# EAGLE library part SOLDERPAD (library logik2)
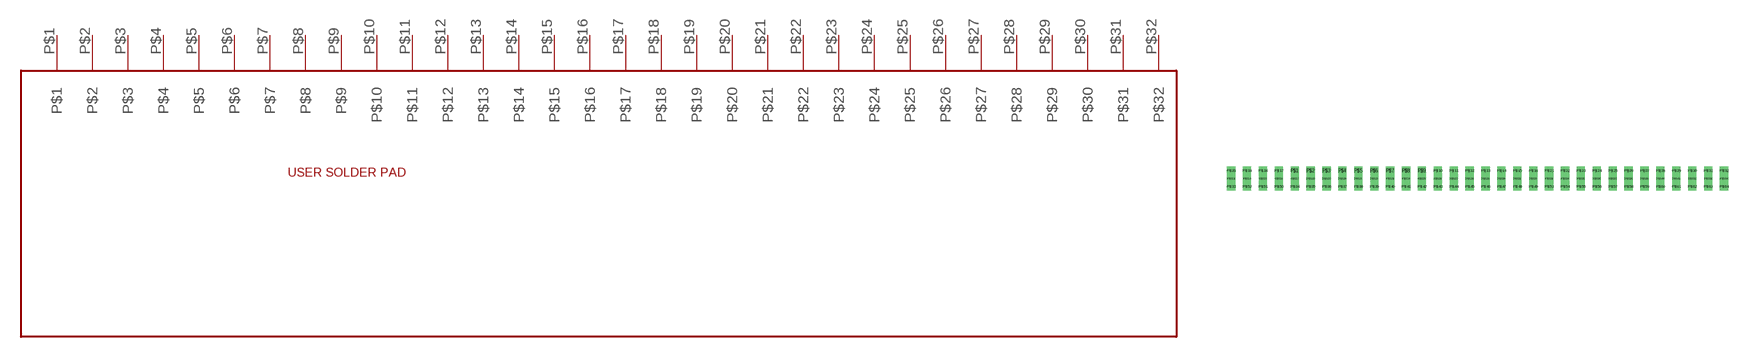
[diagram p23: symbol with the pads of SOLDERPAD; footprint SOLDERPAD]

Designator prefix -

## SOLDERPAD  [SOLDERPAD]
P$1  P$1
P$2  P$2
P$3  P$3
P$4  P$4
P$5  P$5
P$6  P$6
P$7  P$7
P$8  P$8
P$9  P$9
P$10  P$10
P$11  P$11
P$12  P$12
P$13  P$13
P$14  P$14
P$15  P$15
P$16  P$16
P$17  P$17
P$18  P$18
P$19  P$19
P$20  P$20
P$21  P$21
P$22  P$22
P$23  P$23
P$24  P$24
P$25  P$25
P$26  P$26
P$27  P$27
P$28  P$28
P$29  P$29
P$30  P$30
P$31  P$31
P$32  P$32

## Footprint SOLDERPAD (pad centres in mm)
drill 0.8 square: P$1 -13.97,6.35; P$2 -11.43,6.35; P$3 -8.89,6.35; P$4 -6.35,6.35; P$5 -3.81,6.35; P$6 -1.27,6.35; P$7 1.27,6.35; P$8 3.81,6.35; P$9 6.35,6.35; P$10 8.89,6.35; P$11 11.43,6.35; P$12 13.97,6.35; P$13 16.51,6.35; P$14 19.05,6.35; P$15 21.59,6.35; P$16 24.13,6.35; P$17 -16.51,6.35; P$18 -19.05,6.35; P$19 -21.59,6.35; P$20 -24.13,6.35; P$21 26.67,6.35; P$22 29.21,6.35; P$23 31.75,6.35; P$24 34.29,6.35; P$25 36.83,6.35; P$26 39.37,6.35; P$27 41.91,6.35; P$28 44.45,6.35; P$29 46.99,6.35; P$30 49.53,6.35; P$31 52.07,6.35; P$32 54.61,6.35; P$33 -24.13,3.81; P$34 -13.97,3.81; P$35 -11.43,3.81; P$36 -8.89,3.81; P$37 -6.35,3.81; P$38 -3.81,3.81; P$39 -1.27,3.81; P$40 1.27,3.81; P$41 3.81,3.81; P$42 6.35,3.81; P$43 8.89,3.81; P$44 11.43,3.81; P$45 13.97,3.81; P$46 16.51,3.81; P$47 19.05,3.81; P$48 21.59,3.81; P$49 24.13,3.81; P$50 -16.51,3.81; P$51 -19.05,3.81; P$52 -21.59,3.81; P$53 26.67,3.81; P$54 29.21,3.81; P$55 31.75,3.81; P$56 34.29,3.81; P$57 36.83,3.81; P$58 39.37,3.81; P$59 41.91,3.81; P$60 44.45,3.81; P$61 46.99,3.81; P$62 49.53,3.81; P$63 52.07,3.81; P$64 54.61,3.81; P$513 -24.13,5.08; P$514 -21.59,5.08; P$515 -19.05,5.08; P$516 -16.51,5.08; P$517 -13.97,5.08; P$518 -11.43,5.08; P$519 -8.89,5.08; P$520 -6.35,5.08; P$521 -3.81,5.08; P$522 -1.27,5.08; P$523 1.27,5.08; P$524 3.81,5.08; P$525 6.35,5.08; P$526 8.89,5.08; P$527 11.43,5.08; P$528 13.97,5.08; P$529 16.51,5.08; P$530 19.05,5.08; P$531 21.59,5.08; P$532 24.13,5.08; P$533 26.67,5.08; P$534 29.21,5.08; P$535 31.75,5.08; P$536 34.29,5.08; P$537 36.83,5.08; P$538 39.37,5.08; P$539 41.91,5.08; P$540 44.45,5.08; P$541 46.99,5.08; P$542 49.53,5.08; P$543 52.07,5.08; P$544 54.61,5.08